# Altium footprint library MB0004A.01.A.1.PcbLib: 1 footprints
Each footprint in its own frame and in the unit in brackets; x right, y up, seen from the top. Pads: shape width x height; smd on the part's side, far side on the other; paste and mask are expansions set on the pad; w line width, h text height; cw(c..) or ccw(c..) is an arc to the next point about the centre after c.
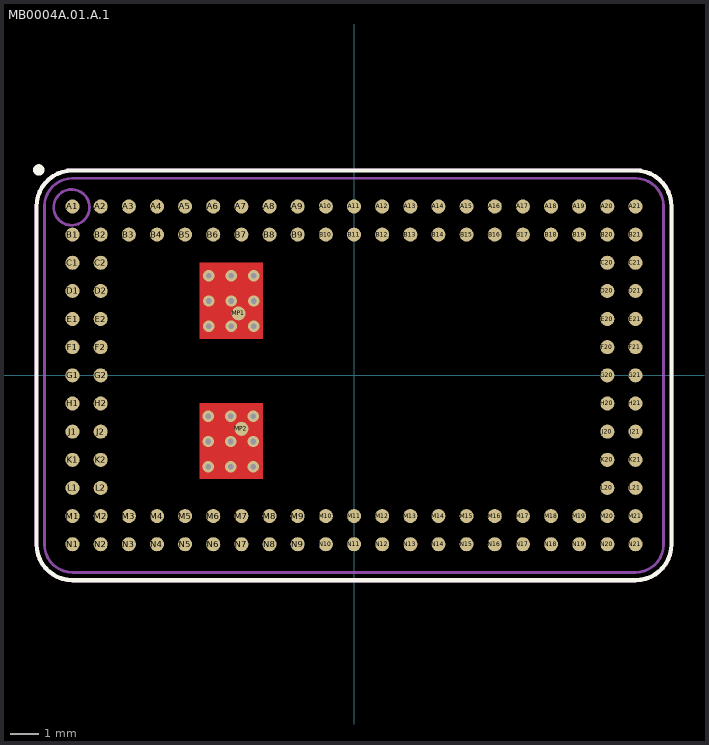
[diagram p0: the footprint, top view; thin cyan lines are the x and y axes]

## MB0004A.01.A.1 [mm]
height 1.2
pads (122):
  round 0.5 smd: A1(-10,6) A2(-9,6) A3(-8,6) A4(-7,6) A5(-6,6) A6(-5,6) A7(-4,6) A8(-3,6) A9(-2,6) A10(-1,6) A11(0,6) A12(1,6) A13(2,6) A14(3,6) A15(4,6) A16(5,6) A17(6,6) A18(7,6) A19(8,6) A20(9,6) A21(10,6) B1(-10,5) B2(-9,5) B3(-8,5) B4(-7,5) B5(-6,5) B6(-5,5) B7(-4,5) B8(-3,5) B9(-2,5) B10(-1,5) B11(0,5) B12(1,5) B13(2,5) B14(3,5) B15(4,5) B16(5,5) B17(6,5) B18(7,5) B19(8,5) B20(9,5) B21(10,5) C1(-10,4) C2(-9,4) C20(9,4) C21(10,4) D1(-10,3) D2(-9,3) D20(9,3) D21(10,3) E1(-10,2) E2(-9,2) E20(9,2) E21(10,2) F1(-10,1) F2(-9,1) F20(9,1) F21(10,1) G1(-10,0) G2(-9,0) G20(9,0) G21(10,0) H1(-10,-1) H2(-9,-1) H20(9,-1) H21(10,-1) J1(-10,-2) J2(-9,-2) J20(9,-2) J21(10,-2) K1(-10,-3) K2(-9,-3) K20(9,-3) K21(10,-3) L1(-10,-4) L2(-9,-4) L20(9,-4) L21(10,-4) M1(-10,-5) M2(-9,-5) M3(-8,-5) M4(-7,-5) M5(-6,-5) M6(-5,-5) M7(-4,-5) M8(-3,-5) M9(-2,-5) M10(-1,-5) M11(0,-5) M12(1,-5) M13(2,-5) M14(3,-5) M15(4,-5) M16(5,-5) M17(6,-5) M18(7,-5) M19(8,-5) M20(9,-5) M21(10,-5) MP1(-4.1,2.2) MP2(-4,-1.9) N1(-10,-6) N2(-9,-6) N3(-8,-6) N4(-7,-6) N5(-6,-6) N6(-5,-6) N7(-4,-6) N8(-3,-6) N9(-2,-6) N10(-1,-6) N11(0,-6) N12(1,-6) N13(2,-6) N14(3,-6) N15(4,-6) N16(5,-6) N17(6,-6) N18(7,-6) N19(8,-6) N20(9,-6) N21(10,-6)
via -4.38,-1.45 diameter 0.4 hole 0.2
via -4.38,-2.35 diameter 0.4 hole 0.2
via -4.38,-3.25 diameter 0.4 hole 0.2
via -3.58,-1.45 diameter 0.4 hole 0.2
via -3.58,-2.35 diameter 0.4 hole 0.2
via -3.58,-3.25 diameter 0.4 hole 0.2
via -5.18,-1.45 diameter 0.4 hole 0.2
via -5.18,-2.35 diameter 0.4 hole 0.2
via -5.18,-3.25 diameter 0.4 hole 0.2
via -5.16,1.74 diameter 0.4 hole 0.2
via -5.16,2.64 diameter 0.4 hole 0.2
via -5.16,3.54 diameter 0.4 hole 0.2
via -3.56,1.74 diameter 0.4 hole 0.2
via -3.56,2.64 diameter 0.4 hole 0.2
via -3.56,3.54 diameter 0.4 hole 0.2
via -4.36,1.74 diameter 0.4 hole 0.2
via -4.36,2.64 diameter 0.4 hole 0.2
via -4.36,3.54 diameter 0.4 hole 0.2
Top Layer:
  region: -3.244,-0.985 -5.479,-0.985 -5.479,-3.677 -3.244,-3.677
  region: -3.244,3.993 -5.479,3.993 -5.479,1.301 -3.244,1.301
Top Overlay:
  circle w0.2: c-11.2,7.3 r0.1
  lines w0.152: -11.278,-5.999 ccw(c-10,-5.999) -10,-7.277 ; -11.278,-5.979 -11.278,6 cw(c-10,6) -10,7.278 10,7.278 cw(c10,6) 11.278,6 11.278,-5.979 ; -10,-7.278 10.006,-7.278 ; 10,-7.278 ccw(c10,-6) 11.278,-6
Mechanical 13:
  circle w0.1: c-10.033,5.969 r0.635
  lines w0.1: -10,-7 10.006,-7 ; -10,-6.999 cw(c-10,-5.999) -11,-5.999 -11,6 cw(c-10,6) -10,7 10,7 cw(c10,6) 11,6 11,-6 cw(c10,-6) 10,-7
Mechanical 15:
  lines w0.1: 10,-7.304 ccw(c10,-6) 11.304,-6 11.304,6 ccw(c10,6) 10,7.304 -10,7.304 ccw(c-10,6) -11.304,6 -11.304,-5.999 ccw(c-10,-5.999) -10,-7.303 10.006,-7.304
3D body: height 3.81, standoff 0, extent -11.3,-7.3 11.3,7.3